# Altium schematic symbol library triac_diac_scr.SchLib: 51 symbols
Pins are listed as number, name and electrical type; pins without a type are passive.

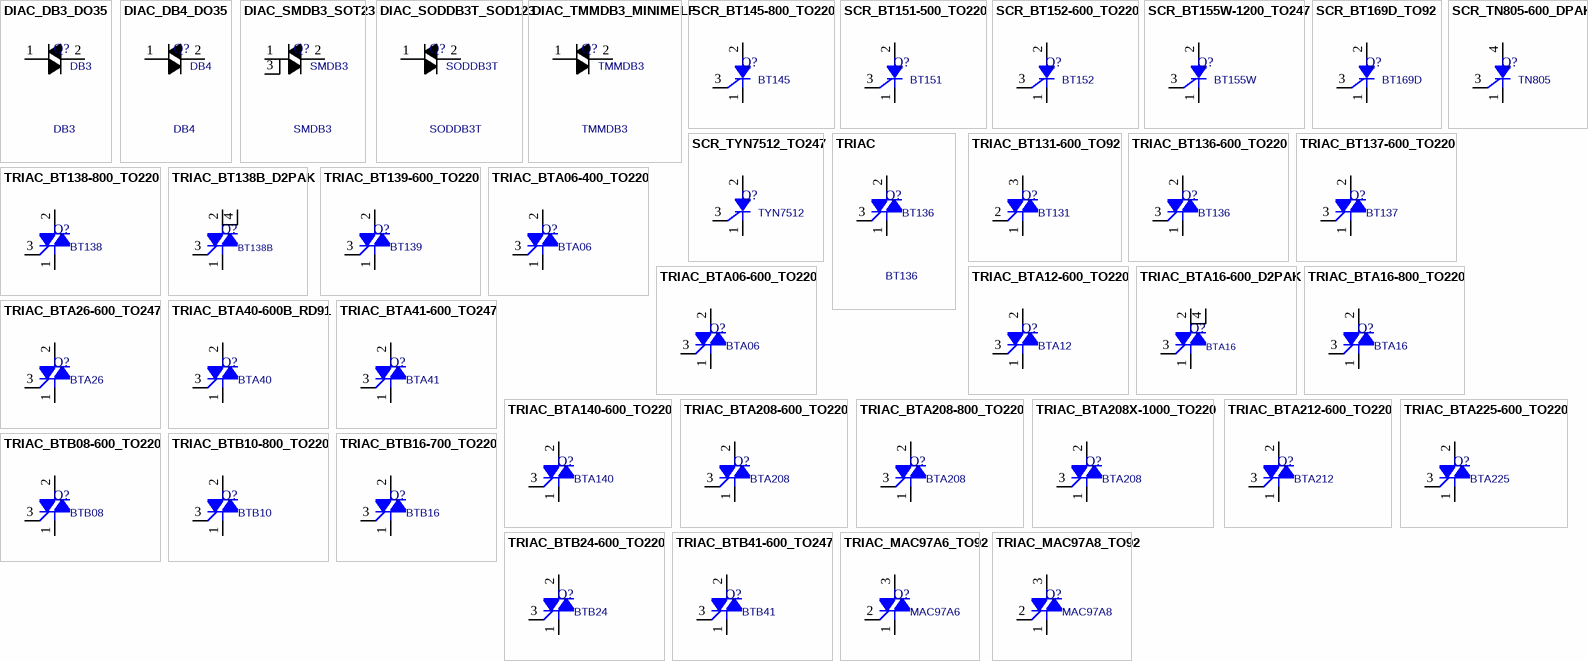
[diagram p0: symbols DIAC_DB3_DO35 to TRIAC_MAC97A8_TO92]

## DIAC_DB3_DO35
designator Q?, comment DB3
Diac, 32VBO, DO-35; MANF: ST; PARAM: 2A, -40~125oC; MANF_P#: DB3; PRICE: toman@PAYA; PARAM2: 32VBO; VALUE: DB3; PACKAGE: DO-35
footprint D_AX03_DO35 (DIODE 0.3 INCH SPACING DO35)
pins: 1 A1, 2 A2

## DIAC_DB4_DO35
designator Q?, comment DB4
Diac, 40VBO, DO-35; MANF: ST; PARAM: 2A, -40~125oC; MANF_P#: DB4; PRICE: toman@PAYA; PARAM2: 40VBO; VALUE: DB4; PACKAGE: DO-35
footprint D_AX03_DO35 (DIODE 0.3 INCH SPACING DO35)
pins: 1 A1, 2 A2

## DIAC_SMDB3_SOT23
designator Q?, comment SMDB3
Diac, 32VBO, SOT-23; MANF: ST; PARAM: 1A, -40~125oC; MANF_P#: SMDB3; PRICE: toman@PAYA; PARAM2: 32VBO; VALUE: SMDB3; PACKAGE: SOT-23
footprint SOT23_3 (SOT-23, Micro3, MO-178, TO-236AB, MO-193C, SuperSOT3, SC-59, 1.5x3mm, Pitch 1.9mm)
pins: 1 A1, 2 A2, 3 A1

## DIAC_SODDB3T_SOD123
designator Q?, comment SODDB3T
Diac, 32VBO, MINIMELF; MANF: Taiwan Semiconductor; PARAM: 2A, -40~125oC; MANF_P#: SODDB3T; PRICE: 0.2$; PARAM2: 32VBO; VALUE: SODDB3T; PACKAGE: SOD-123
footprint D_SOD123W (PowerDI-123, SOD123, DO-213AA, 1206D)
pins: 1 A1, 2 A2

## DIAC_TMMDB3_MINIMELF
designator Q?, comment TMMDB3
Diac, 32VBO, MINIMELF; MANF: ST; PARAM: 2A, -40~125oC; MANF_P#: TMMDB3; PRICE: 0.6$; PARAM2: 32VBO; VALUE: TMMDB3; PACKAGE: MINI-MELF
footprint D_SOD80 (SOD-80 MINI-MELF 3.6X1.6mm, LL-34, LL4148)
pins: 1 A1, 2 A2

## SCR_BT145-800_TO220
designator Q?, comment BT145
Thyristor SCR, 800V, 25A, TO-220; MANF_P#: BT145-800R; PARAM2: 800v; PARAM: 25A; PACKAGE: TO-220; VALUE: BT145
footprint TO220_3 (TO-220 3 LEAD, TO-262, pitch: 2.54mm  10x4.5mm)
pins: 1 K, 2 A, 3 G

## SCR_BT151-500_TO220
designator Q?, comment BT151
Thyristor SCR, 500V, 12A, TO-220; MANF_P#: BT151-500R; PARAM2: 500v; PARAM: 12A; PACKAGE: TO-220; VALUE: BT151
footprint TO220_3 (TO-220 3 LEAD, TO-262, pitch: 2.54mm  10x4.5mm)
pins: 1 K, 2 A, 3 G

## SCR_BT152-600_TO220
designator Q?, comment BT152
Thyristor SCR, 650V, 20A, TO-220; MANF_P#: BT152-600R; PARAM2: 650v; PARAM: 20A; PACKAGE: TO-220; VALUE: BT152
footprint TO220_3 (TO-220 3 LEAD, TO-262, pitch: 2.54mm  10x4.5mm)
pins: 1 K, 2 A, 3 G

## SCR_BT155W-1200_TO247
designator Q?, comment BT155W
Thyristor SCR, 1200V, 79A, TO-247; MANF_P#: BT155W-1200TQ; PARAM2: 1200v; PARAM: 79A; PACKAGE: TO-247-3; VALUE: BT155W
footprint TO247_3 (TO247, TO-247, TO-3P pitch: 5.5mm 15.8x21x5mm, TO-218)
pins: 1 K, 2 A, 3 G

## SCR_BT169D_TO92
designator Q?, comment BT169D
Thyristor SCR, 400v, 0.8A, TO-92; MANF_P#: BT169D; PARAM2: 400v; PARAM: 0.8A; PACKAGE: TO-92; VALUE: BT169D
footprint TO92_3FB (TO-92 formed leads, TO-226, SOT54A)
pins: 1 K, 2 A, 3 G

## SCR_TN805-600_DPAK
designator Q?, comment TN805
Thyristor SCR, 600V, 8A, TO-220; MANF_P#: TN805-600B; PARAM2: 600v; PARAM: 8A; PACKAGE: DPAK; VALUE: TN805
footprint DPAK_3 (D-PAK (TO-252), 3-Pads, Body 6.2x6.7mm)
pins: 1 K, 3 G, 4 A

## SCR_TYN7512_TO247
designator Q?, comment TYN7512
Thyristor SCR, 1200v, 75A, TO-247; MANF_P#: TYN7512; PARAM2: 1200v; PARAM: 75A; PACKAGE: TO-247; VALUE: TYN7512
footprint TO247_3 (TO247, TO-247, TO-3P pitch: 5.5mm 15.8x21x5mm, TO-218)
pins: 1 K, 2 A, 3 G

## TRIAC
designator Q?, comment BT136
Triac, 600V, 4A, TO-220, Silicon Bidirectional Thyristor; MANF_P#: *; MANF: *; PRICE: toman@PAYA; VALUE: BT136; PACKAGE: TO-220
footprint TO220_3 (TO-220 3 LEAD, TO-262, pitch: 2.54mm  10x4.5mm)
pins: 1 T1, 2 T2, 3 G

## TRIAC_BT131-600_TO92
designator Q?, comment BT131
Triac, 600V, 1A, TO-92; MANF_P#: BT131-600; MANF: NXP; PRICE: 500toman@PAYA; VALUE: BT131; PACKAGE: TO-92
footprint TO92_3 (TO-92)
pins: 1 T1, 2 G, 3 T2

## TRIAC_BT136-600_TO220
designator Q?, comment BT136
Triac, 600V, 4A, TO-220; MANF_P#: BT136-600D, BT136-600E; MANF: NXP; PRICE: 700toman@PAYA; VALUE: BT136; PACKAGE: TO-220
footprint TO220_3 (TO-220 3 LEAD, TO-262, pitch: 2.54mm  10x4.5mm)
pins: 1 T1, 2 T2, 3 G

## TRIAC_BT137-600_TO220
designator Q?, comment BT137
Triac, 600V, 8A, TO-220; MANF_P#: BT137-600E; MANF: NXP; PRICE: 1000toman@PAYA; VALUE: BT137; PACKAGE: TO-220
footprint TO220_3 (TO-220 3 LEAD, TO-262, pitch: 2.54mm  10x4.5mm)
pins: 1 T1, 2 T2, 3 G

## TRIAC_BT138-800_TO220
designator Q?, comment BT138
Triac, 800V, 12A, TO-220; MANF_P#: BT138-800; MANF: NXP; PRICE: 2500toman@PAYA; VALUE: BT138; PACKAGE: TO-220
footprint TO220_3 (TO-220 3 LEAD, TO-262, pitch: 2.54mm  10x4.5mm)
pins: 1 T1, 2 T2, 3 G

## TRIAC_BT138B_D2PAK
designator Q?, comment BT138B
Triac, 600V, 12A, D2PAK SMD; MANF_P#: BT138B-600E; MANF: NXP; PRICE: 1200toman@PAYA; VALUE: BT138B; PACKAGE: D2PAK, TO-263
footprint D2PAK_3 (D2-PAK, 4-Pads, Body 7.6x8.6mm)
pins: 1 T1, 2 T2, 3 G, 4 T2T

## TRIAC_BT139-600_TO220
designator Q?, comment BT139
Triac, 600V, 16A, TO-220; MANF_P#: BT139-600E; MANF: NXP; PRICE: 2000toman@PAYA; VALUE: BT139; PACKAGE: TO-220
footprint TO220_3 (TO-220 3 LEAD, TO-262, pitch: 2.54mm  10x4.5mm)
pins: 1 T1, 2 T2, 3 G

## TRIAC_BTA06-400_TO220
designator Q?, comment BTA06
Triac, 400V, 6A, TO-220; MANF_P#: BTA06-400GP; MANF: ST; PRICE: 1500toman@PAYA; VALUE: BTA06; PACKAGE: TO-220
footprint TO220_3 (TO-220 3 LEAD, TO-262, pitch: 2.54mm  10x4.5mm)
pins: 1 T1, 2 T2, 3 G

## TRIAC_BTA06-600_TO220
designator Q?, comment BTA06
Triac, 600V, 6A, TO-220; MANF_P#: BTA06-600BRG; MANF: ST; PRICE: 1500toman@PAYA; VALUE: BTA06; PACKAGE: TO-220
footprint TO220_3 (TO-220 3 LEAD, TO-262, pitch: 2.54mm  10x4.5mm)
pins: 1 T1, 2 T2, 3 G

## TRIAC_BTA12-600_TO220
designator Q?, comment BTA12
Triac, 600V, 12A, TO-220; MANF_P#: BTA12-600BW, BTA12-600CW, BTA12-600TW; MANF: ST; PRICE: 1200toman@PAYA; VALUE: BTA12; PACKAGE: TO-220
footprint TO220_3 (TO-220 3 LEAD, TO-262, pitch: 2.54mm  10x4.5mm)
pins: 1 T1, 2 T2, 3 G

## TRIAC_BTA16-600_D2PAK
designator Q?, comment BTA16
Triac, 600V, 16A, D2PAK SMD; MANF_P#: BTA16-600B; MANF: ST; PRICE: 1800toman@PAYA; VALUE: BTA16; PACKAGE: D2PAK, TO-263
footprint D2PAK_3 (D2-PAK, 4-Pads, Body 7.6x8.6mm)
pins: 1 T1, 2 T2, 3 G, 4 T2T

## TRIAC_BTA16-800_TO220
designator Q?, comment BTA16
Triac, 800V, 16A, TO-220; MANF_P#: BTA16-800CW; MANF: ST; PRICE: 1200toman@PAYA; VALUE: BTA16; PACKAGE: TO-220
footprint TO220_3 (TO-220 3 LEAD, TO-262, pitch: 2.54mm  10x4.5mm)
pins: 1 T1, 2 T2, 3 G

## TRIAC_BTA26-600_TO247
designator Q?, comment BTA26
Triac, 600V, 25A, TOP3; MANF_P#: BTA26-600; MANF: ST; PRICE: 6000toman@PAYA; VALUE: BTA26; PACKAGE: TO-247
footprint TO247_3 (TO247, TO-247, TO-3P pitch: 5.5mm 16x5mm)
pins: 1 T1, 2 T2, 3 G

## TRIAC_BTA40-600B_RD91
designator Q?, comment BTA40
Triac, 600V, 40A, TO-220; MANF_P#: BTA40-600B; MANF: ST; PARAM2: 600V; PARAM: 40A; VALUE: BTA40; PACKAGE: RD-91
footprint RD91 (TO-3, TO3, TO-204A, 2N3055)
pins: 1 T1, 2 T2, 3 G

## TRIAC_BTA41-600_TO247
designator Q?, comment BTA41
Triac, 600V, 40A, TOP3; MANF_P#: BTA41-600B; MANF: ST; PRICE: 7000toman@PAYA; VALUE: BTA41; PACKAGE: TO-247
footprint TO247_3 (TO247, TO-247, TO-3P pitch: 5.5mm 16x5mm)
pins: 1 T1, 2 T2, 3 G

## TRIAC_BTA140-600_TO220
designator Q?, comment BTA140
Triac, 600V, 25A, TO-220; MANF_P#: BTA140-600; MANF: NXP; PRICE: 2000toman@PAYA; VALUE: BTA140; PACKAGE: TO-220
footprint TO220_3 (TO-220 3 LEAD, TO-262, pitch: 2.54mm  10x4.5mm)
pins: 1 T1, 2 T2, 3 G

## TRIAC_BTA208-600_TO220
designator Q?, comment BTA208
Triac, 600V, 8A, TO-220; MANF_P#: BTA208-600B; MANF: NXP; PRICE: 1500toman@PAYA; VALUE: BTA208; PACKAGE: TO-220
footprint TO220_3 (TO-220 3 LEAD, TO-262, pitch: 2.54mm  10x4.5mm)
pins: 1 T1, 2 T2, 3 G

## TRIAC_BTA208-800_TO220
designator Q?, comment BTA208
Triac, 800V, 8A, TO-220; MANF_P#: BTA208-800B; MANF: NXP; PRICE: 1500toman@PAYA; VALUE: BTA208; PACKAGE: TO-220
footprint TO220_3 (TO-220 3 LEAD, TO-262, pitch: 2.54mm  10x4.5mm)
pins: 1 T1, 2 T2, 3 G

## TRIAC_BTA208X-1000_TO220
designator Q?, comment BTA208
Triac, 1000V, 8A, TO-220; MANF_P#: BTA208X-1000C; MANF: NXP; PRICE: 2000toman@PAYA; VALUE: BTA208; PACKAGE: TO-220
footprint TO220_3 (TO-220 3 LEAD, TO-262, pitch: 2.54mm  10x4.5mm)
pins: 1 T1, 2 T2, 3 G

## TRIAC_BTA212-600_TO220
designator Q?, comment BTA212
Triac, 600V, 12A, TO-220; MANF_P#: BTA212-600D; MANF: NXP; PRICE: 2000toman@PAYA; VALUE: BTA212; PACKAGE: TO-220
footprint TO220_3 (TO-220 3 LEAD, TO-262, pitch: 2.54mm  10x4.5mm)
pins: 1 T1, 2 T2, 3 G

## TRIAC_BTA225-600_TO220
designator Q?, comment BTA225
Triac, 600V, 25A, TO-220; MANF_P#: BTA225-600B; MANF: NXP; PRICE: 6000toman@PAYA; VALUE: BTA225; PACKAGE: TO-220
footprint TO220_3 (TO-220 3 LEAD, TO-262, pitch: 2.54mm  10x4.5mm)
pins: 1 T1, 2 T2, 3 G

## TRIAC_BTB08-600_TO220
designator Q?, comment BTB08
Triac, 600V, 8A, TO-220; MANF_P#: BTB08-600CW; MANF: HPM; PRICE: 1000toman@PAYA; VALUE: BTB08; PACKAGE: TO-220
footprint TO220_3 (TO-220 3 LEAD, TO-262, pitch: 2.54mm  10x4.5mm)
pins: 1 T1, 2 T2, 3 G

## TRIAC_BTB10-800_TO220
designator Q?, comment BTB10
Triac, 800V, 10A, TO-220; MANF_P#: BTB10-800BW; MANF: ST; PRICE: 1500toman@PAYA; VALUE: BTB10; PACKAGE: TO-220
footprint TO220_3 (TO-220 3 LEAD, TO-262, pitch: 2.54mm  10x4.5mm)
pins: 1 T1, 2 T2, 3 G

## TRIAC_BTB16-700_TO220
designator Q?, comment BTB16
Triac, 700V, 16A, TO-220; MANF_P#: BTB16-700BW; MANF: ST, ON; PRICE: 2000toman@PAYA; VALUE: BTB16; PACKAGE: TO-220
footprint TO220_3 (TO-220 3 LEAD, TO-262, pitch: 2.54mm  10x4.5mm)
pins: 1 T1, 2 T2, 3 G

## TRIAC_BTB24-600_TO220
designator Q?, comment BTB24
Triac, 600V, 25A, TO-220; MANF_P#: BTB24-600; MANF: ST; PRICE: 5000toman@PAYA; VALUE: BTB24; PACKAGE: TO-220
footprint TO220_3 (TO-220 3 LEAD, TO-262, pitch: 2.54mm  10x4.5mm)
pins: 1 T1, 2 T2, 3 G

## TRIAC_BTB41-600_TO247
designator Q?, comment BTB41
Triac, 600V, 40A, TOP3; MANF_P#: BTB41-600B; MANF: ST; PRICE: 11000toman@PAYA; VALUE: BTB41; PACKAGE: TO-247
footprint TO247_3 (TO247, TO-247, TO-3P pitch: 5.5mm 16x5mm)
pins: 1 T1, 2 T2, 3 G

## TRIAC_MAC97A6_TO92
designator Q?, comment MAC97A6
Triac, 400V, 0.6A, TO-92; MANF: ON, NXP; MANF_P#: MAC97A6; PRICE: 400toman@PAYA; VALUE: MAC97A6; PACKAGE: TO-92
footprint TO92_3 (TO-92)
pins: 1 T1, 2 G, 3 T2

## TRIAC_MAC97A8_TO92
designator Q?, comment MAC97A8
Triac, 600V, 0.6A, TO-92; MANF: NXP; MANF_P#: MAC97A8; PRICE: 400toman@PAYA; VALUE: MAC97A8; PACKAGE: TO-92
footprint TO92_3 (TO-92)
pins: 1 T1, 2 G, 3 T2

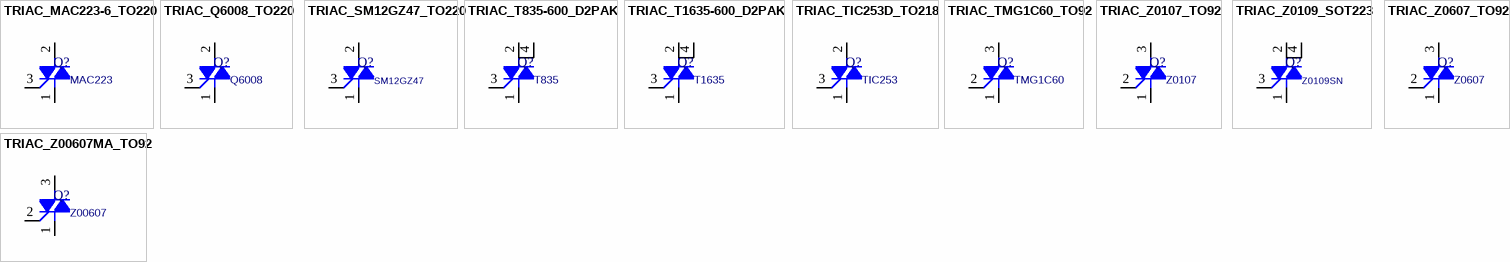
[diagram p1: symbols TRIAC_MAC223-6_TO220 to TRIAC_Z00607MA_TO92]

## TRIAC_MAC223-6_TO220
designator Q?, comment MAC223
Triac, 400V, 25A, TO-220; MANF_P#: MAC223-6; MANF: MOTOROLA; PRICE: 3000toman@PAYA; VALUE: MAC223; PACKAGE: TO-220
footprint TO220_3 (TO-220 3 LEAD, TO-262, pitch: 2.54mm  10x4.5mm)
pins: 1 T1, 2 T2, 3 G

## TRIAC_Q6008_TO220
designator Q?, comment Q6008
Triac, 600V, 8A, TO-220; MANF_P#: Q6008LH4; MANF: Littelfuse; PRICE: 2500toman@PAYA; VALUE: Q6008; PACKAGE: TO-220
footprint TO220_3 (TO-220 3 LEAD, TO-262, pitch: 2.54mm  10x4.5mm)
pins: 1 T1, 2 T2, 3 G

## TRIAC_SM12GZ47_TO220
designator Q?, comment SM12GZ47
Triac, 400V, 12A, TO-220; MANF: TOSHIBA; MANF_P#: SM12GZ47; PRICE: 1000toman@PAYA; VALUE: SM12GZ47; PACKAGE: TO-220
footprint TO220_3 (TO-220 3 LEAD, TO-262, pitch: 2.54mm  10x4.5mm)
pins: 1 T1, 2 T2, 3 G

## TRIAC_T835-600_D2PAK
designator Q?, comment T835
Triac, 600V, 8A, D2PAK SMD; MANF_P#: T835-600B; MANF: ST; PRICE: 9000toman@PAYA; VALUE: T835; PACKAGE: D2PAK, TO-263
footprint D2PAK_3 (D2-PAK, 4-Pads, Body 7.6x8.6mm)
pins: 1 T1, 2 T2, 3 G, 4 T2T

## TRIAC_T1635-600_D2PAK
designator Q?, comment T1635
Triac, 600V, 16A, D2PAK SMD; MANF_P#: T1635-600G; MANF: ST; PRICE: 3000toman@PAYA; VALUE: T1635; PACKAGE: D2PAK, TO-263
footprint D2PAK_3 (D2-PAK, 4-Pads, Body 7.6x8.6mm)
pins: 1 T1, 2 T2, 3 G, 4 T2T

## TRIAC_TIC253D_TO218
designator Q?, comment TIC253
Triac, 400V, 20A, TO-218; MANF_P#: TIC253D; MANF: MOTOROLA; PRICE: 5000toman@PAYA; VALUE: TIC253; PACKAGE: TO-218
footprint TO218_3 (TO218, TO-218, SOT-93, pitch: 5.5mm)
pins: 1 T1, 2 T2, 3 G

## TRIAC_TMG1C60_TO92
designator Q?, comment TMG1C60
Triac, 600V, 1A, TO-92; MANF_P#: TMG1C60LC; MANF: SANREX; PRICE: 200toman@PAYA; VALUE: TMG1C60; PACKAGE: TO-92
footprint TO92_3 (TO-92)
pins: 1 T1, 2 G, 3 T2

## TRIAC_Z0107_TO92
designator Q?, comment Z0107
Triac, 600V, 1A, TO-92; MANF_P#: Z0107NA; MANF: ST; PRICE: 700toman@PAYA; VALUE: Z0107; PACKAGE: TO-92
footprint TO92_3 (TO-92)
pins: 1 T1, 2 G, 3 T2

## TRIAC_Z0109_SOT223
designator Q?, comment Z0109SN
Triac, 600V, 1A, SOT-223 SMD; MANF: ST; MANF_P#: Z0109SN; PRICE: 500toman@PAYA; VALUE: Z0109SN; PACKAGE: SOT-223
footprint SOT223_4 (SOT223, 4-Leads, Body 6.5x3.5mm, Pitch 2.30mm)
pins: 1 T1, 2 T2, 3 G, 4 T2T

## TRIAC_Z0607_TO92
designator Q?, comment Z0607
Triac, 600V, 0.8A, TO-92; MANF: RCR; MANF_P#: Z0607; PRICE: 400toman@PAYA; VALUE: Z0607; PACKAGE: TO-92
footprint TO92_3 (TO-92)
pins: 1 T1, 2 G, 3 T2

## TRIAC_Z00607MA_TO92
designator Q?, comment Z00607
Triac, 600V, 0.8A, TO-92; MANF_P#: Z00607MA; MANF: ST; PRICE: 200toman@PAYA; VALUE: Z00607; PACKAGE: TO-92
footprint TO92_3 (TO-92)
pins: 1 T1, 2 G, 3 T2